# EAGLE library part ADS1258 (library mfePCB)
16-Channel, 24-Bit Analog-to-Digital Converter
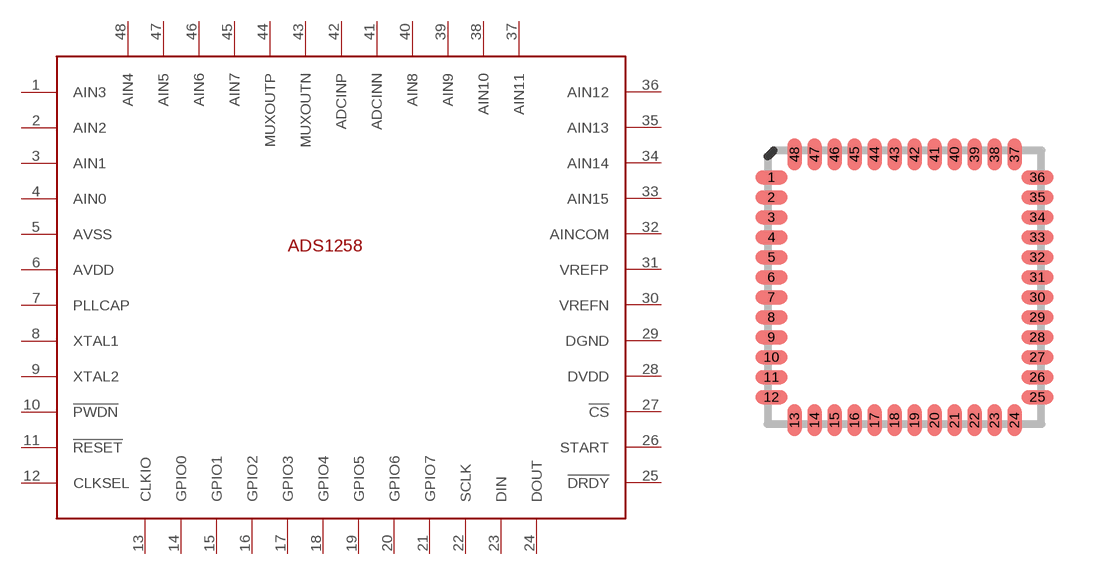
[diagram p1: symbol with the pads of P-HVQFN48-7X7; footprint P-HVQFN48-7X7]

Designator prefix IC

## ADS1258  [P-HVQFN48-7X7]
1  AIN3
2  AIN2
3  AIN1
4  AIN0
5  AVSS
6  AVDD
7  PLLCAP
8  XTAL1
9  XTAL2
10  !PWDN
11  !RESET
12  CLKSEL
13  CLKIO
14  GPIO0
15  GPIO1
16  GPIO2
17  GPIO3
18  GPIO4
19  GPIO5
20  GPIO6
21  GPIO7
22  SCLK
23  DIN
24  DOUT
25  !DRDY
26  START
27  !CS
28  DVDD
29  DGND
30  VREFN
31  VREFP
32  AINCOM
33  AIN15
34  AIN14
35  AIN13
36  AIN12
37  AIN11
38  AIN10
39  AIN9
40  AIN8
41  ADCINN
42  ADCINP
43  MUXOUTN
44  MUXOUTP
45  AIN7
46  AIN6
47  AIN5
48  AIN4

## Footprint P-HVQFN48-7X7 (pad centres in mm)
P-HVQFN48-7X7 Auto generated by make-symbol-device-package-bsdl.ulp Rev. 43 JEITA Package code RENESAS code Previous code P-HVQFN48-7x7-0.50 PVQN0048KG-A P48K9-50A-BAJ
smd 0.8 x 0.35: 1 -3.325,2.75; 2 -3.325,2.25; 3 -3.325,1.75; 4 -3.325,1.25; 5 -3.325,0.75; 6 -3.325,0.25; 7 -3.325,-0.25; 8 -3.325,-0.75; 9 -3.325,-1.25; 10 -3.325,-1.75; 11 -3.325,-2.25; 12 -3.325,-2.75; 25 3.325,-2.75; 26 3.325,-2.25; 27 3.325,-1.75; 28 3.325,-1.25; 29 3.325,-0.75; 30 3.325,-0.25; 31 3.325,0.25; 32 3.325,0.75; 33 3.325,1.25; 34 3.325,1.75; 35 3.325,2.25; 36 3.325,2.75
smd 0.35 x 0.8: 13 -2.75,-3.325; 14 -2.25,-3.325; 15 -1.75,-3.325; 16 -1.25,-3.325; 17 -0.75,-3.325; 18 -0.25,-3.325; 19 0.25,-3.325; 20 0.75,-3.325; 21 1.25,-3.325; 22 1.75,-3.325; 23 2.25,-3.325; 24 2.75,-3.325; 37 2.75,3.325; 38 2.25,3.325; 39 1.75,3.325; 40 1.25,3.325; 41 0.75,3.325; 42 0.25,3.325; 43 -0.25,3.325; 44 -0.75,3.325; 45 -1.25,3.325; 46 -1.75,3.325; 47 -2.25,3.325; 48 -2.75,3.325